# Altium footprint library LIB_PCB_Main.PcbLib: 55 footprints (part 3 of 4)
Each footprint in its own frame and in the unit in brackets; x right, y up, seen from the top. Pads: shape width x height; smd on the part's side, far side on the other; paste and mask are expansions set on the pad; w line width, h text height; cw(c..) or ccw(c..) is an arc to the next point about the centre after c.
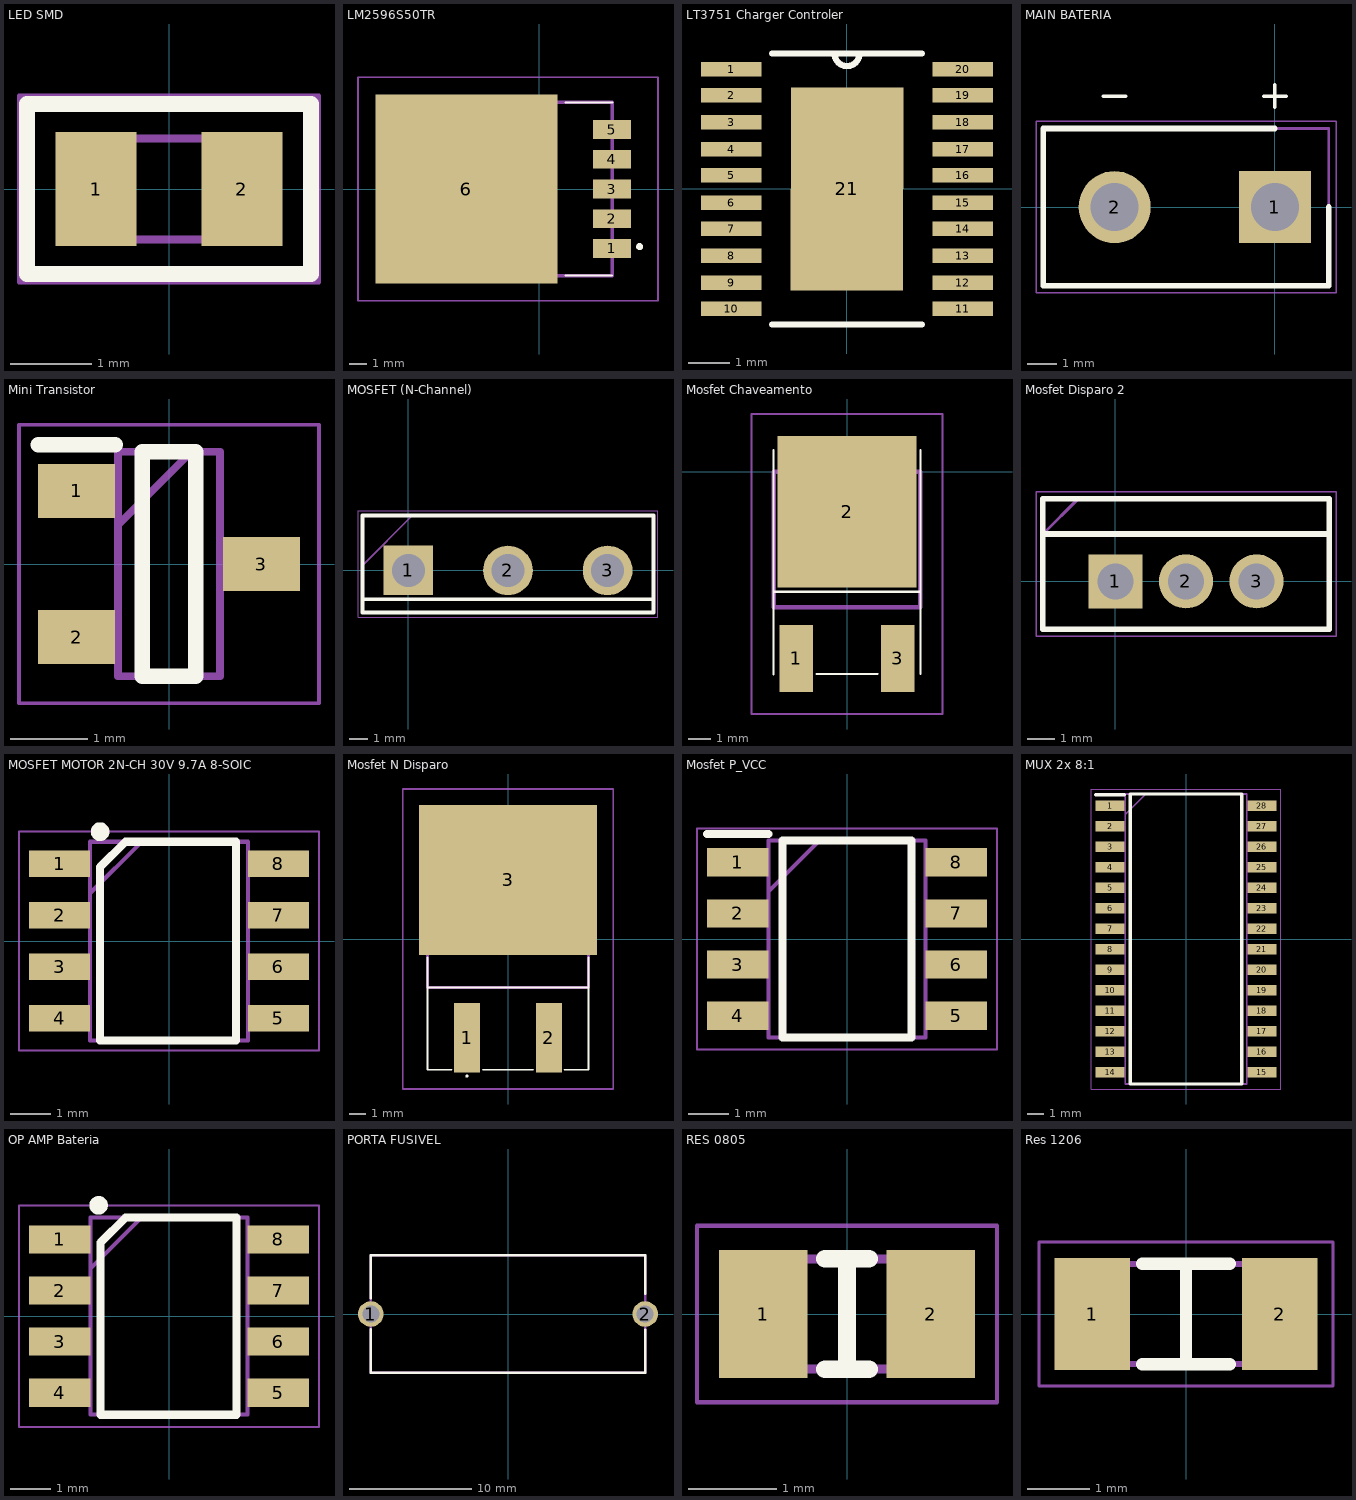
[diagram p2: the footprints below, top view; thin cyan lines are the x and y axes]

## LED SMD [mm] "LED Indication - Discrete 2V 0805 (2012 Metric)"
pads (2):
  rect 1x1.4 smd: 1(-0.9,0) 2(0.9,0)
Top Overlay:
  lines w0.2: -1.75,-1.05 -1.75,1.05 0.9,1.05 1.75,1.05 1.75,-1.05 0.9,-1.05 -1.75,-1.05
Mechanical 13:
  lines w0.1: -1,0.208 -0.583,0.625 ; -1,-0.625 1,-0.625 1,0.625 -1,0.625 -1,-0.625
Mechanical 15:
  lines w0.05: -1.85,-1.15 1.85,-1.15 1.85,1.15 -1.85,1.15 -1.85,-1.15

## LM2596S50TR [mm]
pads (6):
  rect 2.16x1.07 smd: 1(4.162,-3.4) 2(4.162,-1.7) 3(4.162,0) 4(4.162,1.7) 5(4.162,3.4)
  rect 10.41x10.8 smd: 6(-4.162,0)
Top Overlay:
  lines w0.1: 1.5,-4.955 4.162,-4.955 ; 1.5,4.955 4.2,4.955
  lines w0.3: 5.7,-3.3 cw(c5.75,-3.3) 5.8,-3.3 cw(c5.75,-3.3) 5.7,-3.3
Mechanical 13:
  lines w0.2: -4.19,-4.955 -4.19,4.955 4.19,4.955 4.19,-4.955 -4.19,-4.955
Mechanical 15:
  lines w0.1: -10.367,-6.4 -10.367,6.4 6.8,6.4 6.8,-6.4 -10.367,-6.4
3D body "LM2596S-5.0_TR.stp": height 4.75, standoff 0, extent -8.961,-4.955 4.5,4.955

## LT3751 Charger Controler [mil]
pads (21):
  rect 58x14 smd: 1(-111,115) 2(-111,90) 3(-111,64) 4(-111,38) 5(-111,13) 6(-111,-13) 7(-111,-38) 8(-111,-64) 9(-111,-90) 10(-111,-115) 11(111,-115) 12(111,-90) 13(111,-64) 14(111,-38) 15(111,-13) 16(111,13) 17(111,38) 18(111,64) 19(111,90) 20(111,115)
  rect 108x195 smd: 21(0,0)
Top Overlay:
  lines w6: -72,-130 72,-130 ; -72,130 -12,130 ; 72,130 12,130 ; -12,130 ccw(c0,130) 12,130 ; -12,130 12,130
3D body "LT3751_TSSOP-20-2.STEP": height 47.24, standoff 0, extent -125.98,-127.95 125.99,127.95

## MAIN BATERIA [mm] "CONN MAIN BATEIRA"
pads (2):
  rect 2.475x2.475 hole 1.65: 1(0,0)
  round 2.475 hole 1.65: 2(-5.5,0)
Top Overlay:
  lines w0.127: -5.881,3.81 -5.5,3.81 -5.119,3.81 ; -0.381,3.81 0,3.81 0.381,3.81 ; 0,3.429 0,4.191
  lines w0.2: 0,2.7 -7.95,2.7 -7.95,-2.7 1.85,-2.7 1.85,0
Mechanical 13:
  lines w0.1: -7.95,-2.7 -7.95,2.7 1.85,2.7 1.85,-2.7 -7.95,-2.7
Mechanical 15:
  lines w0.05: -8.2,-2.95 -8.2,2.95 2.1,2.95 2.1,-2.95 -8.2,-2.95

## Mini Transistor [mm] "MMBT3904"
pads (3):
  rect 1x0.7 smd: 1(-1.2,0.95) 2(-1.2,-0.95) 3(1.2,0)
Top Overlay:
  lines w0.2: -1.7,1.55 -0.7,1.55 ; -0.35,-1.46 -0.35,1.46 0.35,1.46 0.35,-1.46 -0.35,-1.46
Mechanical 13:
  lines w0.1: -0.662,0.51 0.288,1.46 ; -0.662,-1.46 -0.662,1.46 0.662,1.46 0.662,-1.46 -0.662,-1.46
Mechanical 15:
  lines w0.05: -1.95,-1.81 -1.95,1.81 1.95,1.81 1.95,-1.81 -1.95,-1.81
3D body "MMBT3904.stp": height 0.93, standoff 0, extent -1.2,-1.46 1.2,1.46

## MOSFET (N-Channel) [mm] "MOSFET N-CH 300V 94A TO-3P"
pads (3):
  rect 2.715x2.715 hole 1.81: 1(0,0)
  round 2.715 hole 1.81: 2(5.45,0) 3(10.9,0)
Top Overlay:
  lines w0.2: -2.5,-1.575 13.4,-1.575 13.4,-2.3 ; 13.4,-2.3 13.4,3 -2.5,3 -2.5,0 -2.5,-2.3 13.4,-2.3
Mechanical 13:
  lines w0.1: -2.5,0.275 0.225,3 ; -2.5,-2.3 -2.5,3 13.4,3 13.4,-2.3 -2.5,-2.3
Mechanical 15:
  lines w0.05: -2.75,-2.55 -2.75,3.25 13.65,3.25 13.65,-2.55 -2.75,-2.55
3D body "Mosfet N TO247.STEP": height 26.19, standoff -15.72, extent -2.68,-2.184 13.58,3.116

## Mosfet Chaveamento [mm] "Mosfet-N 50V 50A"
pads (3):
  rect 1.5x3 smd: 1(-2.286,-8.4) 3(2.286,-8.4)
  rect 6.25x6.8 smd: 2(0,-1.8)
Top Overlay:
  lines w0.1: -3.302,-9.114 -3.302,-5.396 ; -3.302,0.986 -3.302,-5.396 ; -1.375,-9.098 1.373,-9.098 1.375,-9.1 1.35,-9.1 ; 3.302,-9.098 3.302,-5.396 ; 3.302,0.986 3.302,-5.396 ; -3.302,-5.396 3.302,-5.396
Mechanical 13:
  lines w0.2: -3.302,-6.096 3.302,-6.096 3.302,0 -3.302,0 -3.302,-6.096
Mechanical 15:
  lines w0.1: -4.302,-10.9 4.302,-10.9 4.302,2.6 -4.302,2.6 -4.302,-10.9
3D body "Mosfet Chaveamento Flyback_TO-252AA.STEP": height 2.37, standoff -0.03, extent -3.353,-9.114 3.381,0.986

## Mosfet Disparo 2 [mm] "Mosfet N Disparo"
pads (3):
  rect 1.95x1.95 hole 1.3: 1(0,0)
  round 1.95 hole 1.3: 2(2.54,0) 3(5.08,0)
Top Overlay:
  lines w0.2: -2.61,1.705 7.63,1.705 ; -2.61,-1.725 7.69,-1.725 7.69,2.975 -2.61,2.975 -2.61,0 -2.61,-1.725
Mechanical 13:
  lines w0.1: -2.61,1.705 -1.34,2.975 ; -2.61,-1.725 -2.61,2.975 7.69,2.975 7.69,-1.725 -2.61,-1.725
Mechanical 15:
  lines w0.05: -2.86,-1.975 -2.86,3.225 7.94,3.225 7.94,-1.975 -2.86,-1.975
3D body "2SK2364.stp": height 19, standoff -18, extent -2.46,-1.725 7.54,2.975

## MOSFET MOTOR 2N-CH 30V 9.7A 8-SOIC [mm]
pads (8):
  rect 1.5x0.65 smd: 1(-2.7,1.905) 2(-2.7,0.635) 3(-2.7,-0.635) 4(-2.7,-1.905) 5(2.7,-1.905) 6(2.7,-0.635) 7(2.7,0.635) 8(2.7,1.905)
Top Overlay:
  circle w0.254: c-1.7,2.7 r0.103
  lines w0.2: -1.7,-2.45 -1.7,1.825 -1.075,2.45 1.65,2.45 1.65,-2.45 -1.7,-2.45
Mechanical 13:
  lines w0.1: -1.95,1.18 -0.68,2.45 ; -1.95,-2.45 -1.95,2.45 1.95,2.45 1.95,-2.45 -1.95,-2.45
Mechanical 15:
  lines w0.05: -3.7,-2.7 -3.7,2.7 3.7,2.7 3.7,-2.7 -3.7,-2.7
3D body "TC4426EOA.stp": height 1.75, standoff 0, extent -3,-2.45 3,2.45

## Mosfet N Disparo [mm] "N-Channel 300V 56A"
pads (3):
  rect 1.6x4.293 smd: 1(-2.54,-6.128) 2(2.54,-6.128)
  rect 11.074x9.296 smd: 3(0,3.664)
Top Overlay:
  lines w0.1: -5,-1.15 -5,-3.012 ; -3.5,-8.121 -5,-8.121 -5,-3.012 ; -1.571,-8.121 1.575,-8.121 1.55,-8.121 ; 3.5,-8.125 4.996,-8.125 5,-8.121 5,-3.012 ; 5,-1.15 5,-3.012 ; -5,-3.012 5,-3.012 ; -2.6,-8.512 cw(c-2.55,-8.512) -2.5,-8.512 cw(c-2.55,-8.512) -2.6,-8.512
Mechanical 13:
  lines w0.2: -5,-3.012 5,-3.012 5,6.388 -5,6.388 -5,-3.012
Mechanical 15:
  lines w0.1: -6.537,-9.312 6.537,-9.312 6.537,9.312 -6.537,9.312 -6.537,-9.312
3D body "Mosfet N Disparo.STEP": height 4.8, standoff -0.22, extent -5.105,-8.121 5.055,7.143

## Mosfet P_VCC [mm] "MOSFET P-CH 30V 20A 8-SOIC"
pads (8):
  rect 1.525x0.7 smd: 1(-2.712,1.905) 2(-2.712,0.635) 3(-2.712,-0.635) 4(-2.712,-1.905) 5(2.712,-1.905) 6(2.712,-0.635) 7(2.712,0.635) 8(2.712,1.905)
Top Overlay:
  lines w0.2: -3.475,2.605 -1.95,2.605 ; -1.6,-2.45 1.6,-2.45 1.6,2.45 -1.6,2.45 -1.6,-2.45
Mechanical 13:
  lines w0.1: -1.95,1.18 -0.68,2.45 ; -1.95,-2.45 1.95,-2.45 1.95,2.45 -1.95,2.45 -1.95,-2.45
Mechanical 15:
  lines w0.05: -3.725,-2.75 3.725,-2.75 3.725,2.75 -3.725,2.75 -3.725,-2.75
3D body "IRF9310PBF.stp": height 1.75, standoff 0, extent -3,-2.45 3,2.45

## MUX 2x 8:1 [mm] "DG407DYZ"
pads (28):
  rect 1.8x0.65 smd: 1(-4.7,8.255) 2(-4.7,6.985) 3(-4.7,5.715) 4(-4.7,4.445) 5(-4.7,3.175) 6(-4.7,1.905) 7(-4.7,0.635) 8(-4.7,-0.635) 9(-4.7,-1.905) 10(-4.7,-3.175) 11(-4.7,-4.445) 12(-4.7,-5.715) 13(-4.7,-6.985) 14(-4.7,-8.255) 15(4.7,-8.255) 16(4.7,-6.985) 17(4.7,-5.715) 18(4.7,-4.445) 19(4.7,-3.175) 20(4.7,-1.905) 21(4.7,-0.635) 22(4.7,0.635) 23(4.7,1.905) 24(4.7,3.175) 25(4.7,4.445) 26(4.7,5.715) 27(4.7,6.985) 28(4.7,8.255)
Top Overlay:
  lines w0.2: -5.6,8.93 -3.8,8.93 ; -3.45,-8.968 -3.45,8.968 3.45,8.968 3.45,-8.968 -3.45,-8.968
Mechanical 13:
  lines w0.1: -3.752,7.698 -2.482,8.968 ; -3.752,-8.968 -3.752,8.968 3.752,8.968 3.752,-8.968 -3.752,-8.968
Mechanical 15:
  lines w0.05: -5.85,-9.28 -5.85,9.28 5.85,9.28 5.85,-9.28 -5.85,-9.28
3D body "ISD17120SY.stp": height 2.64, standoff 0, extent -5.142,-8.968 5.142,8.968

## OP AMP Bateria [mm] "Medir nivel da bateria"
pads (8):
  rect 1.525x0.7 smd: 1(-2.712,1.905) 2(-2.712,0.635) 3(-2.712,-0.635) 4(-2.712,-1.905) 5(2.712,-1.905) 6(2.712,-0.635) 7(2.712,0.635) 8(2.712,1.905)
Top Overlay:
  circle w0.254: c-1.75,2.75 r0.103
  lines w0.2: -1.7,-2.45 -1.7,1.825 -1.075,2.45 1.675,2.45 1.675,-2.45 -1.7,-2.45
Mechanical 13:
  lines w0.1: -1.95,1.18 -0.68,2.45 ; -1.95,-2.45 1.95,-2.45 1.95,2.45 -1.95,2.45 -1.95,-2.45
Mechanical 15:
  lines w0.05: -3.725,-2.75 3.725,-2.75 3.725,2.75 -3.725,2.75 -3.725,-2.75
3D body "IRF8313TRPBF.stp": height 1.75, standoff 0, extent -3,-2.45 3,2.45

## PORTA FUSIVEL [mm] "Fuse Block 10A 500V"
pads (2):
  round 2.1 hole 1.4: 1(-11.25,0) 2(11.25,0)
Top Overlay:
  lines w0.2: -11.25,-1.26 -11.25,-4.8 11.25,-4.8 11.25,-1.308 ; -11.25,1.309 -11.25,4.8 11.25,4.8 11.25,1.649
Mechanical 13:
  lines w0.2: -11.25,-4.8 -11.25,4.8 11.25,4.8 11.25,-4.8 -11.25,-4.8
3D body "PORTA FUSIVEL.stp": height 11.5, standoff -4, extent -11.55,-4.826 11.55,4.774

## RES 0805 [mm] "RESC2012X65N"
pads (2):
  rect 1x1.45 smd: 1(-0.95,0) 2(0.95,0)
Top Overlay:
  lines w0.2: -0.25,-0.625 0.25,-0.625 0,-0.625 0,-0.525 0,0.525 0,0.625 0.25,0.625 -0.25,0.625
Mechanical 13:
  lines w0.1: -1,-0.625 1,-0.625 1,0.625 -1,0.625 -1,-0.625
Mechanical 15:
  lines w0.05: -1.7,-1 1.7,-1 1.7,1 -1.7,1 -1.7,-1
3D body "CPF0805B105RE1.stp": height 0.65, standoff 0, extent -1,-0.625 1,0.625

## Res 1206 [mm] "RESC3216X75N"
pads (2):
  rect 1.2x1.8 smd: 1(-1.5,0) 2(1.5,0)
Top Overlay:
  lines w0.2: -0.7,-0.8 0.7,-0.8 0,-0.8 0,-0.7 0,0.7 0,0.8 0.7,0.8 -0.7,0.8
Mechanical 13:
  lines w0.1: -1.6,-0.8 1.6,-0.8 1.6,0.8 -1.6,0.8 -1.6,-0.8
Mechanical 15:
  lines w0.05: -2.35,-1.15 2.35,-1.15 2.35,1.15 -2.35,1.15 -2.35,-1.15
3D body "CR1206-FW-1504ELF.stp": height 0.75, standoff 0, extent -1.6,-0.8 1.6,0.8